# Altium schematic symbol library 闹铃时钟电路.SchLib: 2 symbols
Pins are listed as number, name and electrical type; pins without a type are passive.

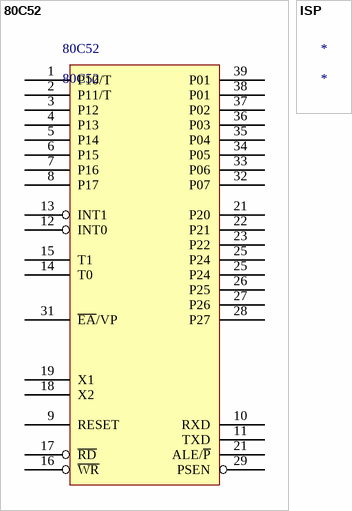
[diagram p0: symbols 80C52 to ISP]

## 80C52
designator 80C52
pins: 1 P10/T, 2 P11/T, 3 P12, 4 P13, 5 P14, 6 P15, 7 P16, 8 P17, 9 RESET, 10 RXD, 11 TXD, 12 INT0, 13 INT1, 14 T0, 15 T1, 16 ~{WR}, 17 ~{RD}, 18 X2, 19 X1, 21 ALE/~{P}, 21 P20, 22 P21, 23 P22, 25 P24, 25 P24, 26 P25, 27 P26, 28 P27, 29 PSEN, 31 ~{EA}/VP, 32 P07, 33 P06, 34 P05, 35 P04, 36 P03, 37 P02, 38 P01, 39 P01

## ISP
designator *